# Altium schematic symbol library MPU6050.SchLib: 1 symbol
Pins are listed as number, name and electrical type; pins without a type are passive.

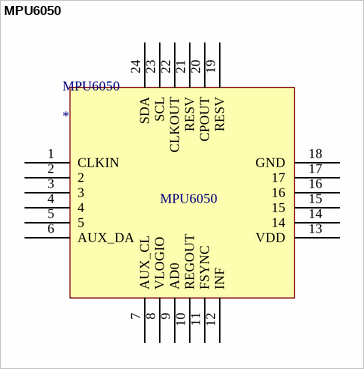
[diagram p0: symbol MPU6050]

## MPU6050
designator MPU6050
footprint MPU6050 (QFN, 24-Leads, Body 4.1x4.1mm (max), Pitch 0.50mm, IPC Medium Density)
pins: 1 CLKIN, 2, 3, 4, 5, 6 AUX_DA, 7 AUX_CL, 8 VLOGIO, 9 AD0, 10 REGOUT, 11 FSYNC, 12 INF, 13 VDD, 14, 15, 16, 17, 18 GND, 19 RESV, 20 CPOUT, 21 RESV, 22 CLKOUT, 23 SCL, 24 SDA